# Altium integrated library SMBJ33A.IntLib: 1 symbol
Pins are listed as number, name and electrical type; pins without a type are passive.

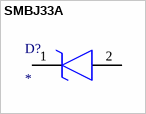
[diagram p0: symbol SMBJ33A]

## SMBJ33A
designator D?
TVS Diode (Uni-directional); Manufacturer_Name: ON Semiconductor; Manufacturer_Part_Number: SMBJ33A; Description: ON SEMICONDUCTOR - SMBJ33A - DIODE; Datasheet Link: http://www.onsemi.com/pub/Collateral/SMBJ9V0CA-D.pdf; Height: 2.65mm; Mouser Part Number: 512-SMBJ33A; Mouser Price/Stock: https://www.mouser.com/Search/Refine.aspx?Keyword=512-SMBJ33A; RS Part Number: 8022320P; RS Price/Stock: http://uk.rs-online.com/web/p/products/8022320P
footprint DIOM5336X265N
pins: 1 K, 2 A